# EAGLE library part LY330ALH (library ly330alh)
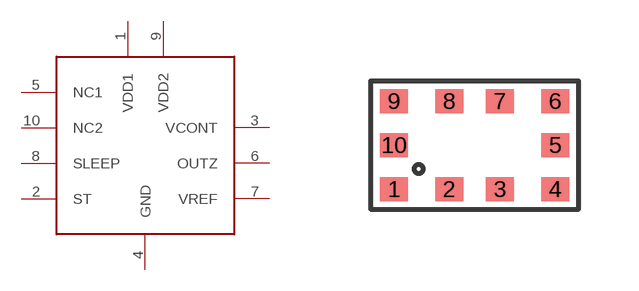
[diagram p0: symbol with the pads of LGA-10; footprint LGA-10]

Designator prefix -

## LY330ALH  [LGA-10]
1  VDD1
2  ST
3  VCONT
4  GND
5  NC1
6  OUTZ
7  VREF
8  SLEEP
9  VDD2
10  NC2

## Footprint LGA-10 (pad centres in mm)
smd 0.7 x 0.6: 1 -2.017,-1.1; 2 -0.635,-1.1; 3 0.635,-1.1; 4 2.017,-1.1; 5 2.017,0; 6 2.017,1.1; 7 0.635,1.1; 8 -0.635,1.1; 9 -2.017,1.1; 10 -2.017,0